# Altium integrated library ASTMLPE-18-100.000MHZ-LJ-E-T3.IntLib: 1 symbol
Pins are listed as number, name and electrical type; pins without a type are passive.

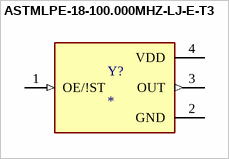
[diagram p0: symbol ASTMLPE-18-100.000MHZ-LJ-E-T3]

## ASTMLPE-18-100.000MHZ-LJ-E-T3
designator Y?
Crystal Oscillator 100MHz 1.8V 15pF 4-Pin SMD T/R; MP: ASTMLPE-18-100.000MHZ-LJ-E-T3; Package: None; Price: None; Value: *; Availability: Unavailable
footprint OSCDFN320X250X80-4N
pins: 1 OE/!ST (in), 2 GND (power), 3 OUT (out), 4 VDD (power)